# Altium footprint library 12_RES_THD_AX14_8mm.PcbLib: 9 footprints
Each footprint in its own frame and in the unit in brackets; x right, y up, seen from the top. Pads: shape width x height; smd on the part's side, far side on the other; paste and mask are expansions set on the pad; w line width, h text height; cw(c..) or ccw(c..) is an arc to the next point about the centre after c.
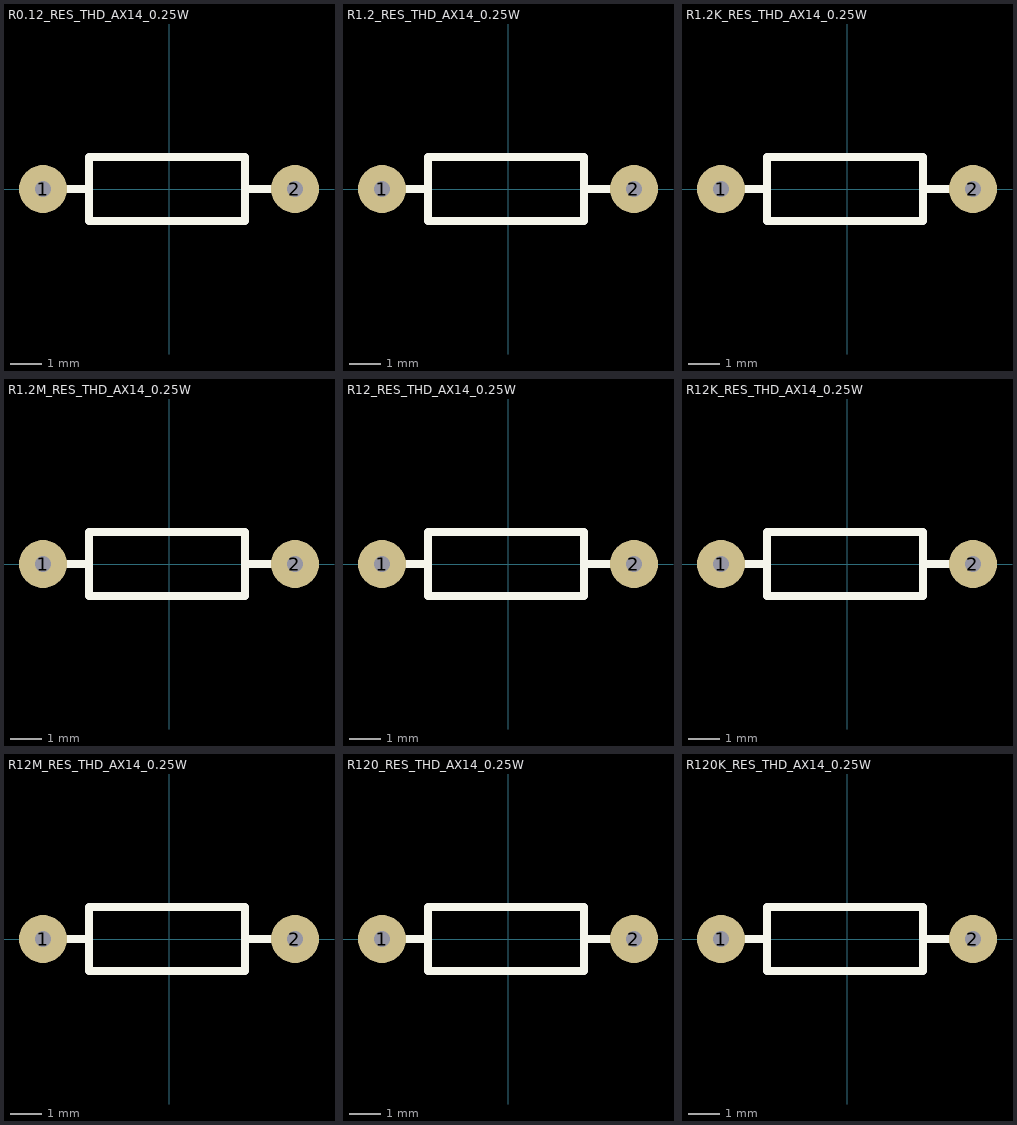
[diagram p0: the footprints below, top view; thin cyan lines are the x and y axes]

## R0.12_RES_THD_AX14_0.25W [mil] "RES_THD_AX14_0.25W-0.12_ 8 mm"
pads (2):
  round 60 hole 19.68: 1(-157.48,0) 2(157.48,0)
Top Overlay:
  lines w10: -157.48,0 -100,0 ; 95,0 157.48,0 ; -100,-40 95,-40 95,40 -100,40 -100,-40
3D body "RES_THD_ASR_ASRM_0.12.STEP": height 96.5, standoff -96.46, extent -167.32,-45.33 167.32,45.33

## R1.2_RES_THD_AX14_0.25W [mil] "RES_THD_AX14_0.25W-1.2 8 mm"
pads (2):
  round 60 hole 19.68: 1(-157.48,0) 2(157.48,0)
Top Overlay:
  lines w10: -157.48,0 -100,0 ; 95,0 157.48,0 ; -100,-40 -100,40 95,40 95,-40 -100,-40
3D body "RES_THD_ASR_ASRM_1.2.STEP": height 96.5, standoff -96.46, extent -167.32,-45.33 167.32,45.33

## R1.2K_RES_THD_AX14_0.25W [mil] "RES_THD_AX14_0.25W -1.2K 8 mm"
pads (2):
  round 60 hole 19.68: 1(-157.48,0) 2(157.48,0)
Top Overlay:
  lines w10: -157.48,0 -100,0 ; 95,0 157.48,0 ; -100,-40 -100,40 95,40 95,-40 -100,-40
3D body "RES_THD_ASR_ASRM_1.2K.STEP": height 96.5, standoff -96.46, extent -167.32,-45.33 167.32,45.33

## R1.2M_RES_THD_AX14_0.25W [mil] "RES_THD_AX14_0.25W -1.2M 8mm"
pads (2):
  round 60 hole 19.68: 1(-157.48,0) 2(157.48,0)
Top Overlay:
  lines w10: -157.48,0 -100,0 ; 95,0 157.48,0 ; -100,-40 95,-40 95,40 -100,40 -100,-40
3D body "RES_THD_ASR_ASRM_1.2M.STEP": height 96.5, standoff -96.46, extent -167.32,-45.33 167.32,45.33

## R12_RES_THD_AX14_0.25W [mil] "RES_THD_AX14_0.25W -12 8 mm"
pads (2):
  round 60 hole 19.68: 1(-157.48,0) 2(157.48,0)
Top Overlay:
  lines w10: -157.48,0 -100,0 ; 95,0 157.48,0 ; -100,-40 -100,40 95,40 95,-40 -100,-40
3D body "RES_THD_ASR_ASRM_12.STEP": height 96.5, standoff -96.46, extent -167.32,-45.33 167.32,45.33

## R12K_RES_THD_AX14_0.25W [mil] "RES_THD_AX14_0.25W -12K 8mm"
pads (2):
  round 60 hole 19.68: 1(-157.48,0) 2(157.48,0)
Top Overlay:
  lines w10: -157.48,0 -100,0 ; 95,0 157.48,0 ; -100,-40 95,-40 95,40 -100,40 -100,-40
3D body "RES_THD_ASR_ASRM_12K.STEP": height 96.5, standoff -96.46, extent -167.32,-45.33 167.32,45.33

## R12M_RES_THD_AX14_0.25W [mil] "RES_THD_AX14_0.25W -12M 8 mm"
pads (2):
  round 60 hole 19.68: 1(-157.48,0) 2(157.48,0)
Top Overlay:
  lines w10: -157.48,0 -100,0 ; 95,0 157.48,0 ; -100,-40 95,-40 95,40 -100,40 -100,-40
3D body "RES_THD_ASR_ASRM_12M.STEP": height 96.5, standoff -96.46, extent -167.32,-45.33 167.32,45.33

## R120_RES_THD_AX14_0.25W [mil] "RES_THD_AX14_0.25W -120 8 mm"
pads (2):
  round 60 hole 19.68: 1(-157.48,0) 2(157.48,0)
Top Overlay:
  lines w10: -157.48,0 -100,0 ; 95,0 157.48,0 ; -100,-40 95,-40 95,40 -100,40 -100,-40
3D body "RES_THD_ASR_ASRM_120.STEP": height 96.5, standoff -96.46, extent -167.32,-45.33 167.32,45.33

## R120K_RES_THD_AX14_0.25W [mil] "RES_THD_AX14_0.25W -120K 8 mm"
pads (2):
  round 60 hole 19.68: 1(-157.48,0) 2(157.48,0)
Top Overlay:
  lines w10: -157.48,0 -100,0 ; 95,0 157.48,0 ; -100,-40 -100,40 95,40 95,-40 -100,-40
3D body "RES_THD_ASR_ASRM_120K.STEP": height 96.5, standoff -96.46, extent -167.32,-45.33 167.32,45.33